# Altium schematic symbol library SPB_Ceramic_Capacitors.SchLib: 33 symbols
Pins are listed as number, name and electrical type; pins without a type are passive.

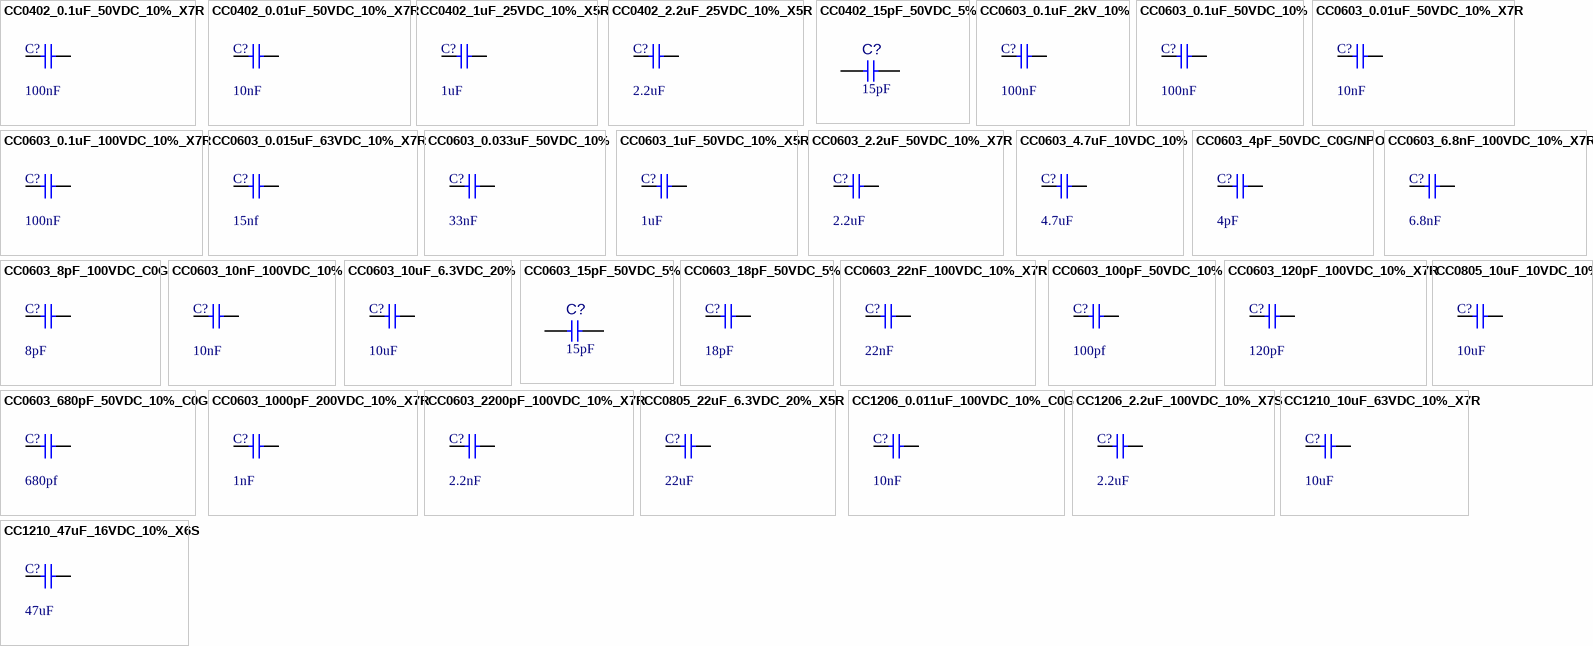
[diagram p0: symbols CC0402_0.1uF_50VDC_10%_X7R to CC1210_47uF_16VDC_10%_X6S]

## CC0402_0.1uF_50VDC_10%_X7R
designator C?, comment 100nF
Multilayer Ceramic Capacitors MLCC - SMD/SMT SOFT 0402 50V 0.1uF X7R 10% AEC-Q200; Manufacturer Part Number: CGA2B3X7R1H104K050BE; Value: 100nF; Mouser Part #: 810-CGA2B3X7R1H104KB
footprint C0402M(C1005X55N) (Multilayer Ceramic Capacitors MLCC - SMD/SMT SOFT 0402)
pins: 1, 2

## CC0402_0.01uF_50VDC_10%_X7R
designator C?, comment 10nF
Multilayer Ceramic Capacitors MLCC - SMD/SMT 50V 0.01uF X7R 0402 10%; Manufacturer Part Number: C0402C103K5RAC7411; Value: 10nF; Mouser Part #: 80-C0402C103K5R7411
footprint C0402M(C1005X55N) (Multilayer Ceramic Capacitors MLCC - SMD/SMT SOFT 0402)
pins: 1, 2

## CC0402_1uF_25VDC_10%_X5R
designator C?, comment 1uF
Multilayer Ceramic Capacitors MLCC - SMD/SMT 1uF 10% 25V; Manufacturer Part Number: CC0402KRX5R8BB105; Value: 1uF; Mouser Part #: 603-CC402KRX5R8BB105
footprint C0402M(C1005X55N) (Multilayer Ceramic Capacitors MLCC - SMD/SMT SOFT 0402)
pins: 1, 2

## CC0402_2.2uF_25VDC_10%_X5R
designator C?, comment 2.2uF
Multilayer Ceramic Capacitors MLCC - SMD/SMT 2.2uF 10% 25V; Manufacturer Part Number: CC0402KRX5R8BB225; Value: 2.2uF; Mouser Part #: 603-CC0402KRX5R8B225
footprint C0402M(C1005X55N) (Multilayer Ceramic Capacitors MLCC - SMD/SMT SOFT 0402)
pins: 1, 2

## CC0402_15pF_50VDC_5%
designator C?, comment value 15pF  (hidden comment: Capacitor NP)
CAP CER 15pF 50V 5% NP0 SMD 0402; Revision: 1; ComponentLink1URL: https://chn-vm-apps.microchip.com/mchprepo/parts/Datasheets/L0005E.pdf; ComponentLink1Description: Datasheet; Manufacturer Part Number 2: GRM1555C1H150JZ01D; Supplier 1: Digi-Key; Supplier Part Number 1: 490-5888-2-ND
footprint C0402M(C1005X55N) (Multilayer Ceramic Capacitors MLCC - SMD/SMT SOFT 0402)
pins: 1, 2

## CC0603_0.1uF_2kV_10%
designator C?, comment 100nF
Capacitor; Value: 100nF; Supplier 1: Digi-Key; Supplier 2: Mouser; Supplier Part Number 1: 445-7865-6-ND; Supplier Part Number 2: 810-C3216X7S3D101K
footprint C1206 (Chip Capacitor, Body 3.2x1.6mm, IPC High Density)
pins: 1, 2

## CC0603_0.1uF_50VDC_10%
designator C?, comment 100nF
Capacitor; Manufacturer Part Number: GRM188R71H104KA93D; Value: 100nF; Mouser Part #: 81-GRM39X104K50D; Digi-Key Part Number: 490-1519-1-ND
footprint C1608[0603] (Chip Capacitor, Body 1.6x0.8mm, IPC High Density)
pins: 1, 2

## CC0603_0.01uF_50VDC_10%_X7R
designator C?, comment 10nF
Multilayer Ceramic Capacitors MLCC - SMD/SMT 50V .01uF X7R 0603 10% Tol; Manufacturer Part Number: 06035C103KAT2A; Value: 10nF; Mouser Part #: 581-06035C103K; Digi-Key Part Number: 478-1227-1-ND
footprint C1608[0603] (Chip Capacitor, Body 1.6x0.8mm, IPC High Density)
pins: 1, 2

## CC0603_0.1uF_100VDC_10%_X7R
designator C?, comment 100nF
Multilayer Ceramic Capacitors MLCC - SMD/SMT 0603 0.1uF 100volts X7R 10%; Manufacturer Part Number: GCM188R72A104KA64D; Value: 100nF; Mouser Part #: 81-GCM188R72A104KA4D
footprint 1608[0603] (Chip Capacitor, Body 1.6x0.8mm, IPC High Density)
pins: 1, 2

## CC0603_0.015uF_63VDC_10%_X7R
designator C?, comment 15nf
MLCC - SMD/SMT .015UF; Manufacturer Part Number: C0603C153KMRECAUTO; Value: 15nf; Mouser Part #: 80-C0603C153KMREAUTO
footprint 1608[0603] (Chip Capacitor, Body 1.6x0.8mm, IPC High Density)
footprint C1608[0603] (Chip Capacitor, Body 1.6x0.8mm, IPC High Density)
pins: 1, 2

## CC0603_0.033uF_50VDC_10%
designator C?, comment 33nF
0.033µF ±10% 50V Ceramic Capacitor X7R 0603; Manufacturer Part Number: GRM188R71H333KA61D; Value: 33nF; Mouser Part #: 81-GRM188R71H333KA61; Digi-Key Part Number: 490-3286-1-ND
footprint 1608[0603] (Chip Capacitor, Body 1.6x0.8mm, IPC High Density)
pins: 1, 2

## CC0603_1uF_50VDC_10%_X5R
designator C?, comment 1uF
1µF ±10% 50V Ceramic Capacitor X5R 0603 (1608 Metric); Manufacturer Part Number: GRM188R61H105KAALD; Value: 1uF; Mouser Part #: 81-GRM188R61H105KALD; Digi-Key Part Number: 490-10732-1-ND
footprint C1608[0603] (Chip Capacitor, Body 1.6x0.8mm, IPC High Density)
pins: 1, 2

## CC0603_2.2uF_50VDC_10%_X7R
designator C?, comment 2.2uF
2.2µF ±10% 50V Ceramic Capacitor X5R 0603 (1608 Metric); Manufacturer Part Number: GRM188R61H225KE11D; Value: 2.2uF; Mouser Part #: 81-GRM188R61H225KE1D; Digi-Key Part Number: 490-10733-1-ND
footprint 1608[0603] (Chip Capacitor, Body 1.6x0.8mm, IPC High Density)
footprint C1608[0603] (Chip Capacitor, Body 1.6x0.8mm, IPC High Density)
pins: 1, 2

## CC0603_4.7uF_10VDC_10%
designator C?, comment 4.7uF
Capacitor; Manufacturer Part Number: C1608X7S0J106M080AC; Value: 4.7uF; Mouser Part #: 810-C1608X7S1A475KAC; Digi-Key Part Number: 445-14258-1-ND
footprint C1608[0603] (Chip Capacitor, Body 1.6x0.8mm, IPC High Density)
pins: 1, 2

## CC0603_4pF_50VDC_C0G/NPO
designator C?, comment 4pF
4pF ±0.25pF 50V Ceramic Capacitor C0G, NP0 0603 (1608 Metric); Manufacturer Part Number: CC0603CRNPO9BN4R0; Value: 4pF; Mouser Part #: 603-CC603CRNPO9BN4R0; Digi-Key Part Number: 311-1053-1-ND
footprint C1608[0603] (Chip Capacitor, Body 1.6x0.8mm, IPC High Density)
pins: 1, 2

## CC0603_6.8nF_100VDC_10%_X7R
designator C?, comment 6.8nF
MLCC - SMD/SMT 0603 6800pF100volts X7R 10%; Manufacturer Part Number: GCD188R72A682KA01D; Value: 6.8nF; Mouser Part #: 81-GCD188R72A682KA1D
footprint 1608[0603] (Chip Capacitor, Body 1.6x0.8mm, IPC High Density)
pins: 1, 2

## CC0603_8pF_100VDC_C0G
designator C?, comment 8pF
Multilayer Ceramic Capacitors MLCC - SMD/SMT 0603 8.0pF 100volts C0G +/-0.5pF; Manufacturer Part Number: GCM1885C2A8R0DA16D; Value: 8pF; Mouser Part #: 81-GCM1885C2A8R0DA6D; Digi-Key Part Number: GCM1885C2A8R0DA16D-ND
footprint 1608[0603] (Chip Capacitor, Body 1.6x0.8mm, IPC High Density)
pins: 1, 2

## CC0603_10nF_100VDC_10%
designator C?, comment 10nF
Capacitor; Value: 10nF; Digi-Key Part Number: 399-3189-6-ND; Mouser Part #: 80-C0603C103K1R
footprint C1608[0603] (Chip Capacitor, Body 1.6x0.8mm, IPC High Density)
pins: 1, 2

## CC0603_10uF_6.3VDC_20%
designator C?, comment 10uF
Capacitor; Manufacturer Part Number: C1608X7S0J106M080AC; Value: 10uF; Supplier 1: Mouser; Supplier 2: Digi-Key; Supplier Part Number 1: 810-CGA3E3X7S2A104K; Supplier Part Number 2: 445-6938-1-ND; Mouser Part #: 810-C1608X7S0J106M; Digi-Key Part Number: 445-9104-1-ND
footprint 1608[0603] (Chip Capacitor, Body 1.6x0.8mm, IPC High Density)
pins: 1, 2

## CC0603_15pF_50VDC_5%
designator C?, comment value 15pF  (hidden comment: Capacitor NP)
CAP CER 15pF 50V 5% NP0 SMD 0402; Manufacturer Part Number: 80-C0603C150J5G; Dielectric: C0G; Revision: 1; ComponentLink1URL: https://chn-vm-apps.microchip.com/mchprepo/parts/Datasheets/L0005E.pdf; ComponentLink1Description: Datasheet; Supplier 1: Digi-Key; Supplier Part Number 2: 80-C0603C150J5G; Supplier 2: Mouser
footprint C1608[0603] (Chip Capacitor, Body 1.6x0.8mm, IPC High Density)
pins: 1, 2

## CC0603_18pF_50VDC_5%
designator C?, comment 18pF
Capacitor; Manufacturer Part Number: 06035A180JAT2A; Value: 18pF; Mouser Part #: 581-06035A180J; Digi-Key Part Number: 478-1166-1-ND
footprint 1608[0603] (Chip Capacitor, Body 1.6x0.8mm, IPC High Density)
pins: 1, 2

## CC0603_22nF_100VDC_10%_X7R
designator C?, comment 22nF
MLCC - SMD/SMT 100volts 22nF 10% X7R ESD; Manufacturer Part Number: C0603C223K1RECTU; Value: 22nF; Mouser Part #: 80-C0603C223K1REC
footprint 1608[0603] (Chip Capacitor, Body 1.6x0.8mm, IPC High Density)
pins: 1, 2

## CC0603_100pF_50VDC_10%
designator C?, comment 100pf
Capacitor; Value: 100pf; Mouser Part #: 603-CC603KRX7R9BB101
footprint C1608[0603] (Chip Capacitor, Body 1.6x0.8mm, IPC High Density)
pins: 1, 2

## CC0603_120pF_100VDC_10%_X7R
designator C?, comment 120pF
MLCC - SMD/SMT 0603 120pF 100volts X7R 10%; Manufacturer Part Number: VJ0603Y121KXBCW1BC; Value: 120pF; Mouser Part #: 77-VJ0603Y121KXBCBC
footprint 1608[0603] (Chip Capacitor, Body 1.6x0.8mm, IPC High Density)
pins: 1, 2

## CC0603_680pF_50VDC_10%_C0G
designator C?, comment 680pf
Multilayer Ceramic Capacitors MLCC - SMD/SMT 680pF 50V NPO 5%; Manufacturer Part Number: CC0603JRNPO9BN681; Value: 680pf; Mouser Part #: 603-CC603JRNPO9BN681
footprint 1608[0603] (Chip Capacitor, Body 1.6x0.8mm, IPC High Density)
pins: 1, 2

## CC0603_1000pF_200VDC_10%_X7R
designator C?, comment 1nF
1000pF ±10% 200V Ceramic Capacitor X7R 0603 (1608 Metric); Manufacturer Part Number: C0603C102K2RECAUTO; Value: 1nF; Mouser Part #: 81-GRM188R61H225KE1D; Digi-Key Part Number: 399-14103-1-ND
footprint 1608[0603] (Chip Capacitor, Body 1.6x0.8mm, IPC High Density)
pins: 1, 2

## CC0603_2200pF_100VDC_10%_X7R
designator C?, comment 2.2nF
2200pF ±10% 100V Ceramic Capacitor X7R 0603 (1608 Metric); Manufacturer Part Number: GRM188R72A222KA01D; Value: 2.2nF; Mouser Part #: 81-GRM188R72A222KA01; Digi-Key Part Number: 490-1478-1-ND
footprint 1608[0603] (Chip Capacitor, Body 1.6x0.8mm, IPC High Density)
pins: 1, 2

## CC0805_10uF_10VDC_10%
designator C?, comment 10uF
Capacitor; Manufacturer Part Number: GCM21BR71A106KE22L; Value: 10uF; Mouser Part #: 81-GCM21BR71A106KE2L; Digi-Key Part Number: 490-10674-1-ND
footprint 6-0805_L (Chip Resistor, Body 2.0x1.2mm, IPC High Density)
pins: 1, 2

## CC0805_22uF_6.3VDC_20%_X5R
designator C?, comment 22uF
22µF ±20% 6.3V Ceramic Capacitor X5R 0805; Manufacturer Part Number: GRM21BR60J226ME39L; Value: 22uF; Mouser Part #: 81-GRM21R60J226ME39L; Digi-Key Part Number: 490-1719-1-ND
footprint 6-0805_L (Chip Resistor, Body 2.0x1.2mm, IPC High Density)
pins: 1, 2

## CC1206_0.011uF_100VDC_10%_C0G
designator C?, comment 10nF
Multilayer Ceramic Capacitors MLCC - SMD/SMT 0.011uF_100VDC_10%_C0G; Manufacturer Part Number: GRM3195C2A113JA01D; Value: 10nF; Mouser Part #: 81-GRM3195C2A113JA1D; Digi-Key Part Number: 11nF
footprint C1206 (Chip Capacitor, Body 3.2x1.6mm, IPC High Density)
pins: 1, 2

## CC1206_2.2uF_100VDC_10%_X7S
designator C?, comment 2.2uF
MLCC - SMD/SMT 1206 2.2uF 100volts X7S 10%; Manufacturer Part Number: GRM32ER72A225KA35L; Value: 2.2uF; Mouser Part #: 81-GCM31CC72A225KE2L; Digi-Key Part Number: 490-14438-1-ND
footprint C1206 (Chip Capacitor, Body 3.2x1.6mm, IPC High Density)
pins: 1, 2

## CC1210_10uF_63VDC_10%_X7R
designator C?, comment 10uF
Multilayer Ceramic Capacitors MLCC - SMD/SMT 1210 10uF 63volts; Manufacturer Part Number: GRM32ER71J106KA12L; Value: 10uF; Mouser Part #: 81-GRM32ER71J106KA2L
footprint C1210_M (Chip Capacitor, Body 3.2x2.5mm, IPC Low Density)
pins: 1, 2

## CC1210_47uF_16VDC_10%_X6S
designator C?, comment 47uF
Multilayer Ceramic Capacitors MLCC - SMD/SMT 1210 47uF 16volts *Derate Voltage/Temp; Manufacturer Part Number: GRM32EC81C476KE15L; Value: 47uF; Mouser Part #: 81-GRM32EC81C476KE5L
footprint C1210_M (Chip Capacitor, Body 3.2x2.5mm, IPC Low Density)
pins: 1, 2